# Altium schematic symbol library RT9013.SchLib: 1 symbol
Pins are listed as number, name and electrical type; pins without a type are passive.

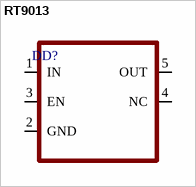
[diagram p0: symbol RT9013]

## RT9013
designator DD?
pins: 1 IN, 2 GND, 3 EN, 4 NC, 5 OUT